# Altium footprint library REF5050MDREP.PcbLib: 3 footprints
Each footprint in its own frame and in the unit in brackets; x right, y up, seen from the top. Pads: shape width x height; smd on the part's side, far side on the other; paste and mask are expansions set on the pad; w line width, h text height; cw(c..) or ccw(c..) is an arc to the next point about the centre after c.
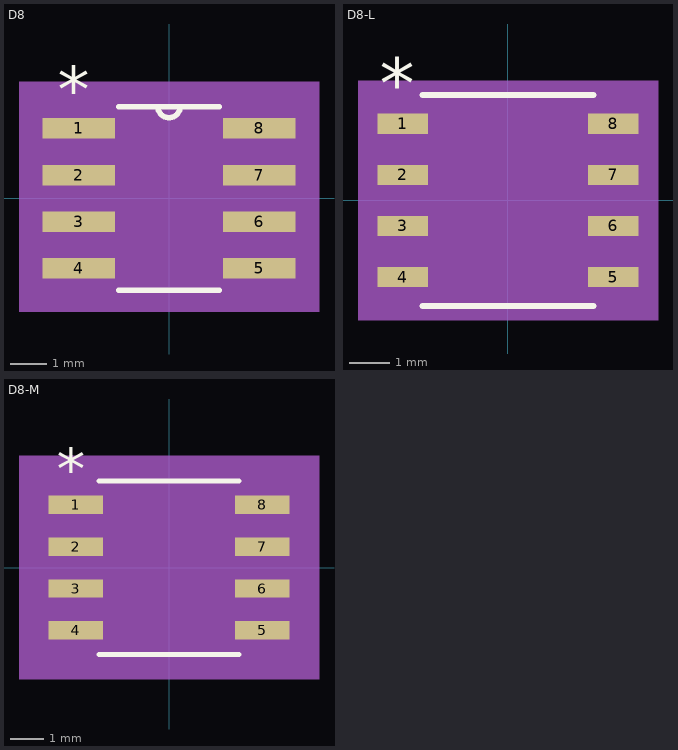
[diagram p0: the footprints below, top view; thin cyan lines are the x and y axes]

## D8 [mil]
pads (8):
  rect 78x22 smd: 1(-97,75) 2(-97,25) 3(-97,-25) 4(-97,-75) 5(97,-75) 6(97,-25) 7(97,25) 8(97,75)
Top Overlay:
  lines w6: -54.08,-98.5 54.08,-98.5 ; -54.08,98.5 54.08,98.5 ; -12,98.5 ccw(c0,98.5) 12,98.5
  text "*" at -119.5,92 h50
Mechanical 5:
  region: 161,-122 -161,-122 -161,125 161,125
Mechanical 13:
  lines w0: -12,98.5 ccw(c0,98.5) 12,98.5
  lines w1: -122,-85 -78.5,-85 -78.5,-65 -122,-65 -122,-85 ; -122,-35 -78.5,-35 -78.5,-15 -122,-15 -122,-35 ; -122,15 -78.5,15 -78.5,35 -122,35 -122,15 ; -122,65 -78.5,65 -78.5,85 -122,85 -122,65 ; -78.5,-98.5 -78.5,98.5 78.5,98.5 78.5,-98.5 -78.5,-98.5 ; 78.5,-85 122,-85 122,-65 78.5,-65 78.5,-85 ; 78.5,-35 122,-35 122,-15 78.5,-15 78.5,-35 ; 78.5,15 122,15 122,35 78.5,35 78.5,15 ; 78.5,65 122,65 122,85 78.5,85 78.5,65
  text "*" at -119.5,92 h50
Mechanical 15:
  region: 146,-108.5 -146,-108.5 -146,108.5 146,108.5
  lines w6: -146,-108.5 146,-108.5 146,108.5 -146,108.5 -146,-108.5
3D body: height 10, standoff 0, extent 0,0 10,10

## D8-L [mil]
pads (8):
  rect 49.5x20 smd paste+0 mask+0: 1(-103.25,75) 2(-103.25,25) 3(-103.25,-25) 4(-103.25,-75) 5(103.25,-75) 6(103.25,-25) 7(103.25,25) 8(103.25,75)
Top Overlay:
  lines w6: -83.5,-103.5 83.5,-103.5 ; -83.5,103.5 83.5,103.5
  text "*" at -125.75,90 h50
Mechanical 5:
  region: 147,-117.5 -147,-117.5 -147,117.5 147,117.5
Mechanical 13:
  lines w0: -12,98.5 ccw(c0,98.5) 12,98.5
  lines w1: -122,-85 -122,-65 -78.5,-65 -78.5,-85 -122,-85 ; -122,-35 -122,-15 -78.5,-15 -78.5,-35 -122,-35 ; -122,15 -122,35 -78.5,35 -78.5,15 -122,15 ; -122,65 -122,85 -78.5,85 -78.5,65 -122,65 ; -78.5,-98.5 78.5,-98.5 78.5,98.5 -78.5,98.5 -78.5,-98.5 ; 78.5,-85 78.5,-65 122,-65 122,-85 78.5,-85 ; 78.5,-35 78.5,-15 122,-15 122,-35 78.5,-35 ; 78.5,15 78.5,35 122,35 122,15 78.5,15 ; 78.5,65 78.5,85 122,85 122,65 78.5,65
  text "*" at -76,45.5 h50
Mechanical 15:
  region: -82.5,-89 -132,-89 -132,89 -82.5,89 -82.5,102.5 82.5,102.5 82.5,89 132,89 132,-89 82.5,-89 82.5,-102.5 -82.5,-102.5
  lines w6: -132,-89 -132,89 -82.5,89 -82.5,102.5 82.5,102.5 82.5,89 132,89 132,-89 82.5,-89 82.5,-102.5 -82.5,-102.5 -82.5,-89 -132,-89
3D body: height 10, standoff 0, extent 0,0 10,10

## D8-M [mil]
pads (8):
  rect 65.5x22 smd paste+0 mask+0: 1(-111.25,75) 2(-111.25,25) 3(-111.25,-25) 4(-111.25,-75) 5(111.25,-75) 6(111.25,-25) 7(111.25,25) 8(111.25,75)
Top Overlay:
  lines w6: -83.5,-103.5 83.5,-103.5 ; -83.5,103.5 83.5,103.5
  text "*" at -133.75,92 h50
Mechanical 5:
  region: 179,-133.5 -179,-133.5 -179,133.5 179,133.5
Mechanical 13:
  lines w0: -12,98.5 ccw(c0,98.5) 12,98.5
  lines w1: -122,-85 -122,-65 -78.5,-65 -78.5,-85 -122,-85 ; -122,-35 -122,-15 -78.5,-15 -78.5,-35 -122,-35 ; -122,15 -122,35 -78.5,35 -78.5,15 -122,15 ; -122,65 -122,85 -78.5,85 -78.5,65 -122,65 ; -78.5,-98.5 78.5,-98.5 78.5,98.5 -78.5,98.5 -78.5,-98.5 ; 78.5,-85 78.5,-65 122,-65 122,-85 78.5,-85 ; 78.5,-35 78.5,-15 122,-15 122,-35 78.5,-35 ; 78.5,15 78.5,35 122,35 122,15 78.5,15 ; 78.5,65 78.5,85 122,85 122,65 78.5,65
  text "*" at -76,45.5 h50
Mechanical 15:
  region: -98.5,-106 -164,-106 -164,106 -98.5,106 -98.5,118.5 98.5,118.5 98.5,106 164,106 164,-106 98.5,-106 98.5,-118.5 -98.5,-118.5
  lines w6: -164,-106 -164,106 -98.5,106 -98.5,118.5 98.5,118.5 98.5,106 164,106 164,-106 98.5,-106 98.5,-118.5 -98.5,-118.5 -98.5,-106 -164,-106
3D body: height 10, standoff 0, extent 0,0 10,10